# Altium footprint library RSX068MP2STR.PcbLib: 1 footprints
Each footprint in its own frame and in the unit in brackets; x right, y up, seen from the top. Pads: shape width x height; smd on the part's side, far side on the other; paste and mask are expansions set on the pad; w line width, h text height; cw(c..) or ccw(c..) is an arc to the next point about the centre after c.
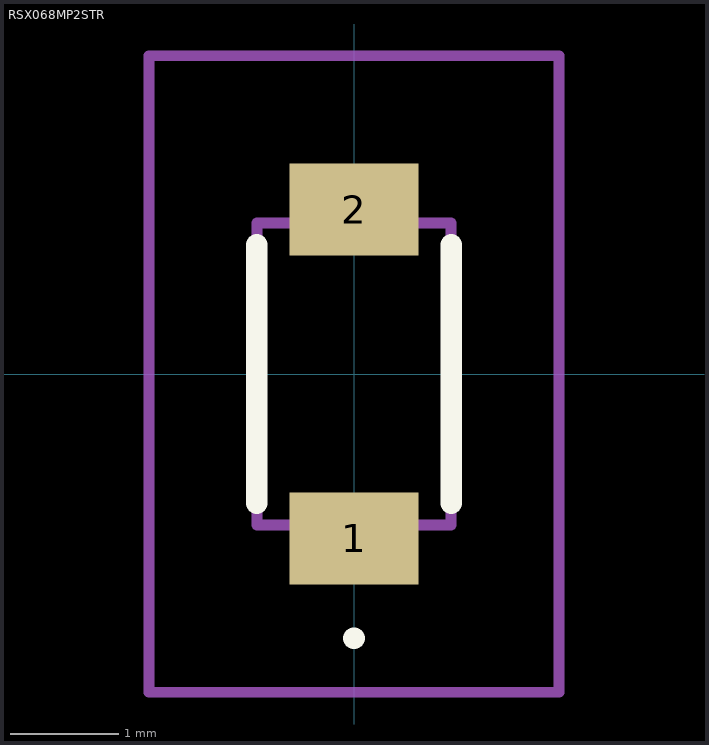
[diagram p0: the footprint, top view; thin cyan lines are the x and y axes]

## RSX068MP2STR [mm]
pads (2):
  rect 1.2x0.85 smd: 1(0,-1.525) 2(0,1.525)
Top Overlay:
  lines w0.1: 0,-2.5 0,-2.5 ; 0,-2.5 ccw(c0,-2.45) 0,-2.4 ; 0,-2.5 cw(c0,-2.45) 0,-2.4 ; 0,-2.4 0,-2.4
  lines w0.2: -0.9,-1.2 -0.9,1.2 ; 0.9,-1.2 0.9,1.2
Mechanical 15:
  lines w0.1: -0.9,-1.4 0.9,-1.4 0.9,1.4 -0.9,1.4 -0.9,-1.4
Mechanical 20:
  lines w0.1: -1.9,-2.95 1.9,-2.95 1.9,2.95 -1.9,2.95 -1.9,-2.95